# Altium schematic symbol library LTC3773EUHF#PBF.SchLib: 1 symbol
Pins are listed as number, name and electrical type; pins without a type are passive.

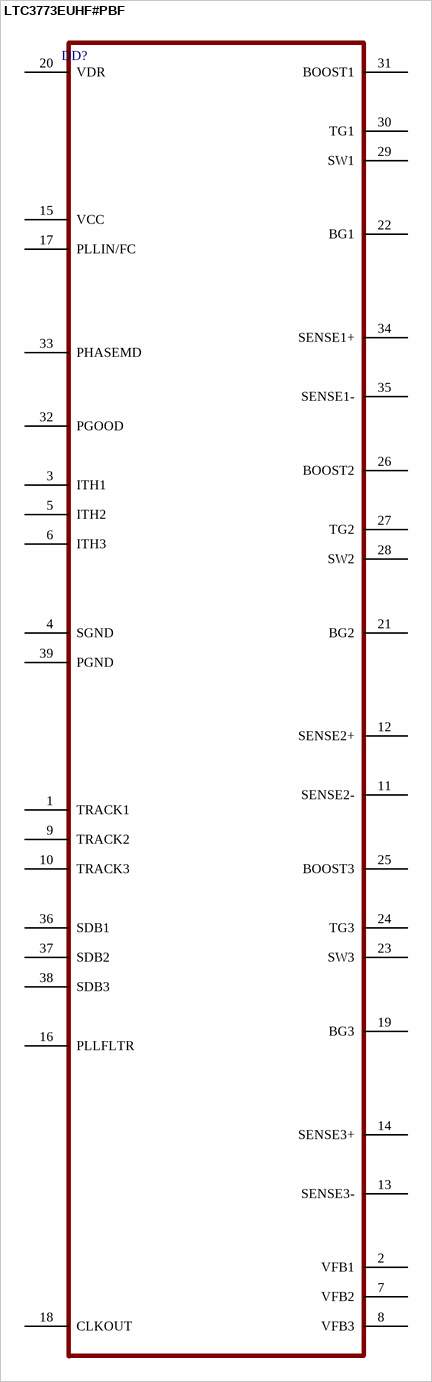
[diagram p0: symbol LTC3773EUHF#PBF]

## LTC3773EUHF#PBF
designator DD?
pins: 1 TRACK1, 2 VFB1, 3 ITH1, 4 SGND, 5 ITH2, 6 ITH3, 7 VFB2, 8 VFB3, 9 TRACK2, 10 TRACK3, 11 SENSE2-, 12 SENSE2+, 13 SENSE3-, 14 SENSE3+, 15 VCC, 16 PLLFLTR, 17 PLLIN/FC, 18 CLKOUT, 19 BG3, 20 VDR, 21 BG2, 22 BG1, 23 SW3, 24 TG3, 25 BOOST3, 26 BOOST2, 27 TG2, 28 SW2, 29 SW1, 30 TG1, 31 BOOST1, 32 PGOOD, 33 PHASEMD, 34 SENSE1+, 35 SENSE1-, 36 SDB1, 37 SDB2, 38 SDB3, 39 PGND